# Altium footprint library SL_Varistors.PcbLib: 1 footprints
Each footprint in its own frame and in the unit in brackets; x right, y up, seen from the top. Pads: shape width x height; smd on the part's side, far side on the other; paste and mask are expansions set on the pad; w line width, h text height; cw(c..) or ccw(c..) is an arc to the next point about the centre after c.
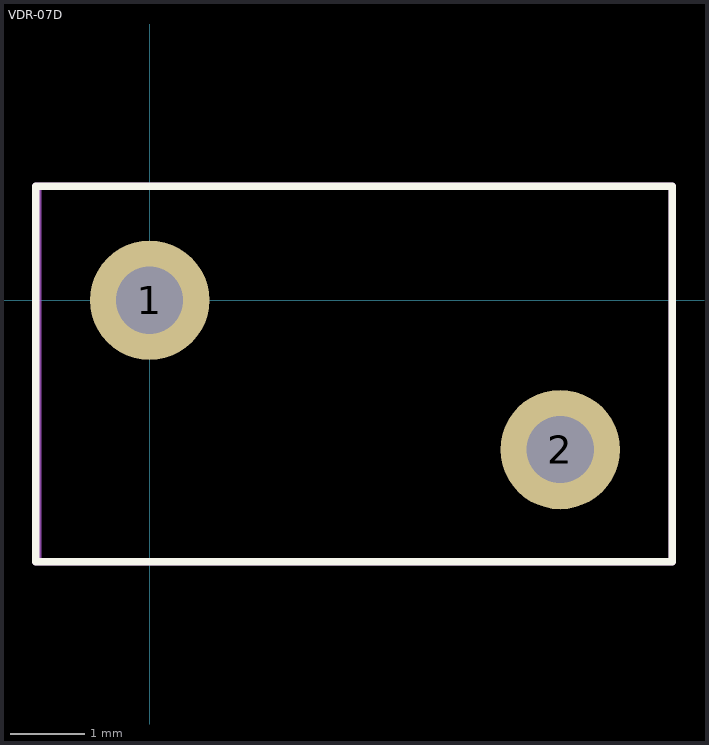
[diagram p0: the footprint, top view; thin cyan lines are the x and y axes]

## VDR-07D [mm]
pads (2):
  round 1.6 hole 0.9: 1(0,0) 2(5.5,-2)
Top Overlay:
  lines w0.1: -1.524,-3.5 7,-3.5 7,1.524 -1.524,1.524 -1.524,-3.5
Mechanical 13:
  lines w0.1: -1.524,-3.5 7,-3.5 7,1.524 -1.524,1.524 -1.524,-3.5
Mechanical 15:
  lines w0.1: -1.5,-3.5 7,-3.5 7,1.524 -1.5,1.524 -1.5,-3.5
3D body "VDR-07D.STEP": height 13.24, standoff -4, extent -1.5,-3.5 7,1.5